# EAGLE library part USB3318 (library USB3318)
Hi-Speed USB Transceiver ULPI Interface Data Sheet: http://ww1.microchip.com/downloads/en/DeviceDoc/3318.pdf
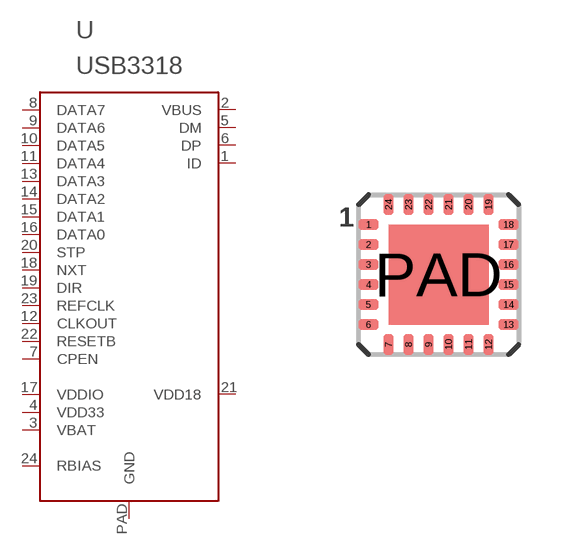
[diagram p0: symbol with the pads of 24QFN; footprint 24QFN]

Designator prefix U

## USB3318  [24QFN]
1  ID
2  VBUS
3  VBAT
4  VDD33
5  DM
6  DP
7  CPEN  nc
8  DATA7
9  DATA6
10  DATA5
11  DATA4
12  CLKOUT  nc
13  DATA3
14  DATA2
15  DATA1
16  DATA0
17  VDDIO
18  NXT
19  DIR
20  STP
21  VDD18
22  RESETB
23  REFCLK
24  RBIAS
PAD  GND

## Footprint 24QFN (pad centres in mm)
24-Pin QFN 4x4mm Body 0.5mm Pitch
smd 0.5 x 0.25: 1 -1.75,1.25; 2 -1.75,0.75; 3 -1.75,0.25; 4 -1.75,-0.25; 5 -1.75,-0.75; 6 -1.75,-1.25; 13 1.75,-1.25; 14 1.75,-0.75; 15 1.75,-0.25; 16 1.75,0.25; 17 1.75,0.75; 18 1.75,1.25
smd 0.25 x 0.5: 7 -1.25,-1.75; 8 -0.75,-1.75; 9 -0.25,-1.75; 10 0.25,-1.75; 11 0.75,-1.75; 12 1.25,-1.75; 19 1.25,1.75; 20 0.75,1.75; 21 0.25,1.75; 22 -0.25,1.75; 23 -0.75,1.75; 24 -1.25,1.75
smd 2.5 x 2.5: PAD 0,0